# Altium schematic symbol library MOSFET Board Schematic Library.SchLib: 13 symbols
Pins are listed as number, name and electrical type; pins without a type are passive.

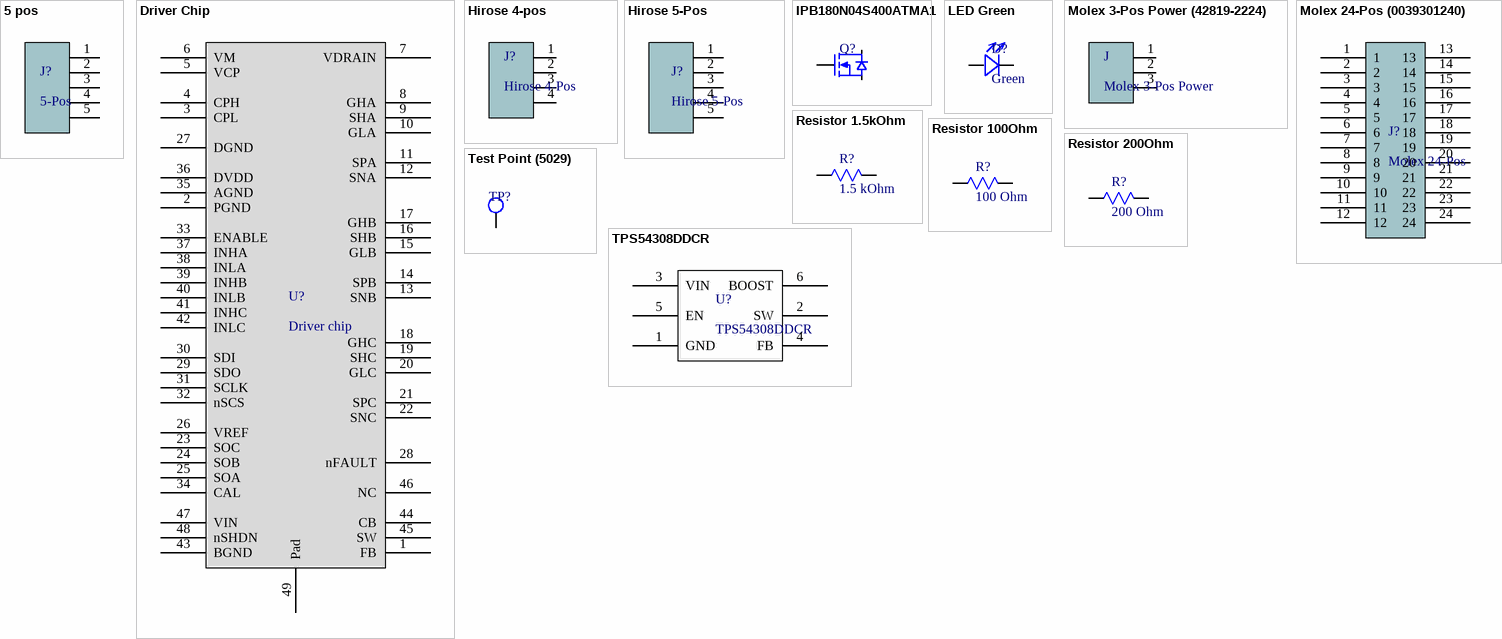
[diagram p0: symbols 5 pos to TPS54308DDCR]

## 5 pos
designator J?, comment 5-Pos
ComponentLink1Description: 5-pos Hirose; ComponentLink1URL: https://www.digikey.ca/product-detail/en/hirose-electric-co-ltd/DF3A-5P-2DSA/H2097-ND/141521
pins: 1, 2, 3, 4, 5

## Driver Chip
designator U?, comment Driver chip
pins: 1 FB, 2 PGND, 3 CPL, 4 CPH, 5 VCP, 6 VM, 7 VDRAIN, 8 GHA, 9 SHA, 10 GLA, 11 SPA, 12 SNA, 13 SNB, 14 SPB, 15 GLB, 16 SHB, 17 GHB, 18 GHC, 19 SHC, 20 GLC, 21 SPC, 22 SNC, 23 SOC, 24 SOB, 25 SOA, 26 VREF, 27 DGND, 28 nFAULT, 29 SDO, 30 SDI, 31 SCLK, 32 nSCS, 33 ENABLE, 34 CAL, 35 AGND, 36 DVDD, 37 INHA, 38 INLA, 39 INHB, 40 INLB, 41 INHC, 42 INLC, 43 BGND, 44 CB, 45 SW, 46 NC, 47 VIN, 48 nSHDN, 49 Pad

## Hirose 4-pos
designator J?, comment Hirose 4-Pos
ComponentLink1Description: 4-pos; ComponentLink1URL: https://www.digikey.ca/product-detail/en/hirose-electric-co-ltd/DF3A-4P-2DSA/H2096-ND/141518
pins: 1, 2, 3, 4

## Hirose 5-Pos
designator J?
ComponentLink1Description: 5-pos; ComponentLink1URL: https://www.digikey.ca/product-detail/en/hirose-electric-co-ltd/DF3A-5P-2DSA/H2097-ND/141521
pins: 1, 2, 3, 4, 5

## IPB180N04S400ATMA1
designator Q?  (value not drawn)
N-Channel 40V 180A (Tc) 300W (Tc) Surface Mount PG-TO263-7-3; ComponentLink1Description: NMOS; ComponentLink1URL: https://www.digikey.ca/product-detail/en/Infineon+Technologies/IPB180N04S400ATMA1/IPB180N04S400ATMA1DKR-ND/6560174
pins: 1 G, 2 D, 3 S

## LED Green
designator D?, comment Green
pins: 1, 2

## Molex 3-Pos Power (42819-2224)
designator J, comment Molex 3-Pos Power
pins: 1, 2, 3

## Molex 24-Pos (0039301240)
designator J?, comment Molex 24-Pos
footprint PCBComponent_1
pins: 1, 2, 3, 4, 5, 6, 7, 8, 9, 10, 11, 12, 13, 14, 15, 16, 17, 18, 19, 20, 21, 22, 23, 24

## Resistor 1.5kOhm
designator R?, comment 1.5 kOhm
footprint RES 0603 MEDIUM (Chip Resistor, 2-Leads, Body 1.60x0.80mm, IPC Medium Density)
pins: 1, 2

## Resistor 100Ohm
designator R?, comment 100 Ohm
footprint RES 0603 MEDIUM (Chip Resistor, 2-Leads, Body 1.60x0.80mm, IPC Medium Density)
pins: 1, 2

## Resistor 200Ohm
designator R?, comment 200 Ohm
footprint RES 0603 MEDIUM (Chip Resistor, 2-Leads, Body 1.60x0.80mm, IPC Medium Density)
pins: 1, 2

## Test Point (5029)
designator TP?, comment TP  (value not drawn)
Keystone Electronics PC Test Point, Miniature Phosphor Bronze, Silver Plating Surface Mount Mounting Type; ComponentLink1Description: Test Point; ComponentLink1URL: https://www.digikey.ca/product-detail/en/keystone-electronics/5029/36-5029CT-ND/5980631
footprint Test Point (Keystone Electronics (5029))
pins: 1

## TPS54308DDCR
designator U?
Buck Switching Regulator IC Positive Adjustable 1V 1 Output 3A SOT-23-6 Thin, TSOT-23-6
pins: 1 GND, 2 SW, 3 VIN, 4 FB, 5 EN, 6 BOOST